# Altium footprint library k7_ext.PcbLib: 274 footprints (part 5 of 18)
Each footprint in its own frame and in the unit in brackets; x right, y up, seen from the top. Pads: shape width x height; smd on the part's side, far side on the other; paste and mask are expansions set on the pad; w line width, h text height; cw(c..) or ccw(c..) is an arc to the next point about the centre after c.
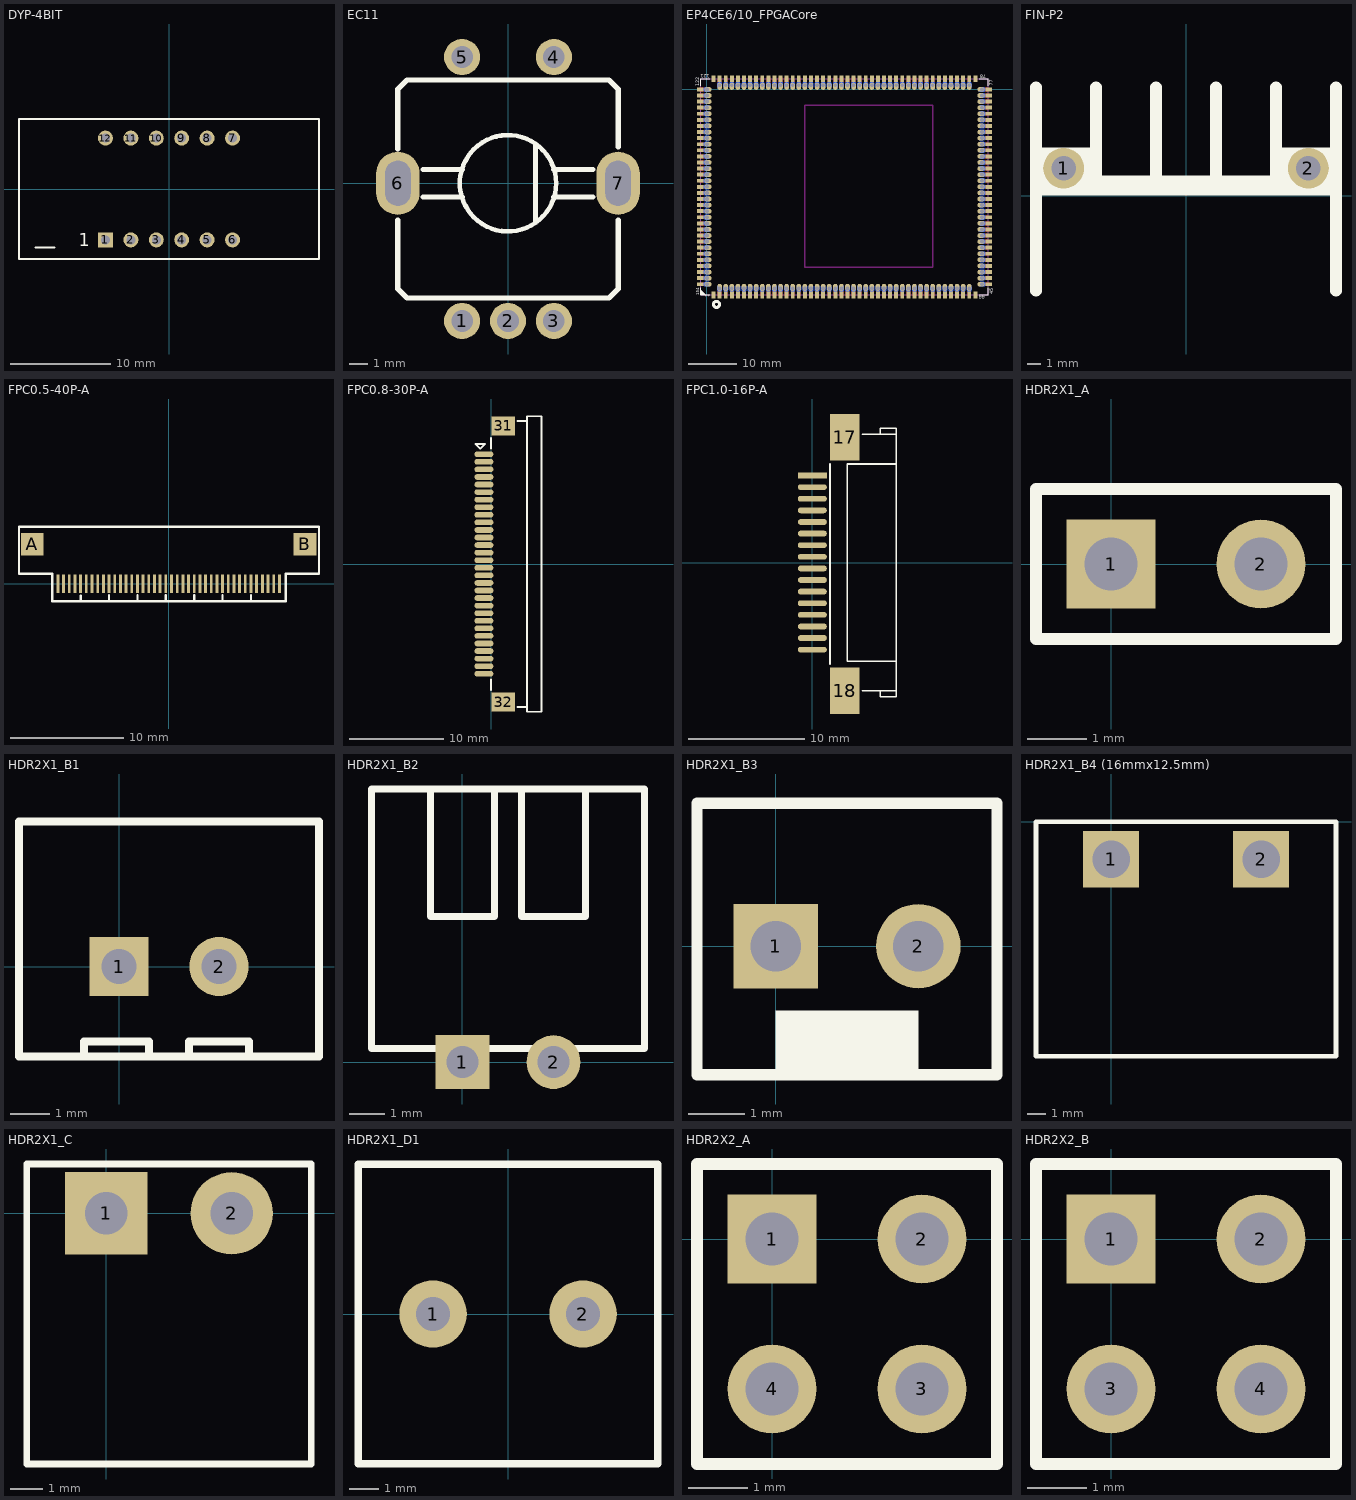
[diagram p4: the footprints below, top view; thin cyan lines are the x and y axes]

## DYP-4BIT [mm] "数码管"
height 1.2
pads (12):
  rect 1.5x1.5 hole 0.9: 1(-6.35,-5.08)
  round 1.5 hole 0.9: 2(-3.81,-5.08) 3(-1.27,-5.08) 4(1.27,-5.08) 5(3.81,-5.08) 6(6.35,-5.08) 7(6.35,5.08) 8(3.81,5.08) 9(1.27,5.08) 10(-1.27,5.08) 11(-3.81,5.08) 12(-6.35,5.08)
Top Overlay:
  lines w0.2: -13.335,-5.842 -11.43,-5.842 ; -14.986,-6.985 14.986,-6.985 14.986,6.985 -14.986,6.985 -14.986,-6.985
  text "1" at -9.017,-5.715 h1.27

## EC11 [mm]
pads (7):
  round 2 hole 1.2: 1(-2.54,-7.62) 2(0,-7.62) 3(2.54,-7.62) 4(2.54,6.985) 5(-2.54,6.985)
  oval 2.4x3.5 hole 1.4 slot 2.5 at 90 deg: 6(-6.096,0) 7(6.096,0)
Top Overlay:
  circle w0.254: c0,0 r2.667
  lines w0.3: -6.096,-2.032 -6.096,-5.842 -5.588,-6.35 5.588,-6.35 6.096,-5.842 6.096,-2.032 ; -6.096,1.905 -6.096,5.207 -5.588,5.715 5.588,5.715 6.096,5.207 6.096,2.032 ; -4.699,-0.762 -2.54,-0.762 ; -4.699,0.762 -2.54,0.762 ; 1.524,-2.159 1.524,2.159 ; 2.54,-0.762 4.699,-0.762 ; 2.54,0.762 4.699,0.762

## EP4CE6/10_FPGACore [mm] "EP4CE6/10_FPGACore"
height 2
pads (604):
  rect 0.813x1.384 smd mask+0.051: 1(1.374,-42.89) 2(2.644,-42.89) 3(3.914,-42.89) 4(5.184,-42.89) 5(6.454,-42.89) 6(7.724,-42.89) 7(8.994,-42.89) 8(10.264,-42.89) 9(11.534,-42.89) 10(12.804,-42.89) 11(14.074,-42.89) 12(15.344,-42.89) 13(16.614,-42.89) 14(17.884,-42.89) 15(19.154,-42.89) 16(20.424,-42.89) 17(21.694,-42.89) 18(22.964,-42.89) 19(24.234,-42.89) 20(25.504,-42.89) 21(26.774,-42.89) 22(28.044,-42.89) 23(29.314,-42.89) 24(30.584,-42.89) 25(31.854,-42.89) 26(33.124,-42.89) 27(34.394,-42.89) 28(35.664,-42.89) 29(36.934,-42.89) 30(38.204,-42.89) 31(39.474,-42.89) 32(40.744,-42.89) 33(42.014,-42.89) 34(43.284,-42.89) 35(44.554,-42.89) 36(45.824,-42.89) 37(47.094,-42.89) 38(48.364,-42.89) 39(49.634,-42.89) 40(50.904,-42.89) 41(52.174,-42.89) 42(53.444,-42.89) 43(54.714,-42.89) 44(55.984,-42.89) 78(55.984,2.25) 79(54.714,2.25) 80(53.444,2.25) 81(52.174,2.25) 82(50.904,2.25) 83(49.634,2.25) 84(48.364,2.25) 85(47.094,2.25) 86(45.824,2.25) 87(44.554,2.25) 88(43.284,2.25) 89(42.014,2.25) 90(40.744,2.25) 91(39.474,2.25) 92(38.204,2.25) 93(36.934,2.25) 94(35.664,2.25) 95(34.394,2.25) 96(33.124,2.25) 97(31.854,2.25) 98(30.584,2.25) 99(29.314,2.25) 100(28.044,2.25) 101(26.774,2.25) 102(25.504,2.25) 103(24.234,2.25) 104(22.964,2.25) 105(21.694,2.25) 106(20.424,2.25) 107(19.154,2.25) 108(17.884,2.25) 109(16.614,2.25) 110(15.344,2.25) 111(14.074,2.25) 112(12.804,2.25) 113(11.534,2.25) 114(10.264,2.25) 115(8.994,2.25) 116(7.724,2.25) 117(6.454,2.25) 118(5.184,2.25) 119(3.914,2.25) 120(2.644,2.25) 121(1.374,2.25)
  oval 0.94x1 hole 0.8 mask+0.051: 2(2.644,-41.499) 3(3.914,-41.499) 4(5.184,-41.499) 5(6.454,-41.499) 6(7.724,-41.499) 7(8.994,-41.499) 8(10.264,-41.499) 9(11.534,-41.499) 10(12.804,-41.499) 11(14.074,-41.499) 12(15.344,-41.499) 13(16.614,-41.499) 14(17.884,-41.499) 15(19.154,-41.499) 16(20.424,-41.499) 17(21.694,-41.499) 18(22.964,-41.499) 19(24.234,-41.499) 20(25.504,-41.499) 21(26.774,-41.499) 22(28.044,-41.499) 23(29.314,-41.499) 24(30.584,-41.499) 25(31.854,-41.499) 26(33.124,-41.499) 27(34.394,-41.499) 28(35.664,-41.499) 29(36.934,-41.499) 30(38.204,-41.499) 31(39.474,-41.499) 32(40.744,-41.499) 33(42.014,-41.499) 34(43.284,-41.499) 35(44.554,-41.499) 36(45.824,-41.499) 37(47.094,-41.499) 38(48.364,-41.499) 39(49.634,-41.499) 40(50.904,-41.499) 41(52.174,-41.499) 42(53.444,-41.499) 43(54.714,-41.499) 79(54.714,0.859) 80(53.444,0.859) 81(52.174,0.859) 82(50.904,0.859) 83(49.634,0.859) 84(48.364,0.859) 85(47.094,0.859) 86(45.824,0.859) 87(44.554,0.859) 88(43.284,0.859) 89(42.014,0.859) 90(40.744,0.859) 91(39.474,0.859) 92(38.204,0.859) 93(36.934,0.859) 94(35.664,0.859) 95(34.394,0.859) 96(33.124,0.859) 97(31.854,0.859) 98(30.584,0.859) 99(29.314,0.859) 100(28.044,0.859) 101(26.774,0.859) 102(25.504,0.859) 103(24.234,0.859) 104(22.964,0.859) 105(21.694,0.859) 106(20.424,0.859) 107(19.154,0.859) 108(17.884,0.859) 109(16.614,0.859) 110(15.344,0.859) 111(14.074,0.859) 112(12.804,0.859) 113(11.534,0.859) 114(10.264,0.859) 115(8.994,0.859) 116(7.724,0.859) 117(6.454,0.859) 118(5.184,0.859) 119(3.914,0.859) 120(2.644,0.859)
  oval 0.95x1.5 smd far side paste-14 mask+0.051: 2(2.644,-41.499) 3(3.914,-41.499) 4(5.184,-41.499) 5(6.454,-41.499) 6(7.724,-41.499) 7(8.994,-41.499) 8(10.264,-41.499) 9(11.534,-41.499) 10(12.804,-41.499) 11(14.074,-41.499) 12(15.344,-41.499) 13(16.614,-41.499) 14(17.884,-41.499) 15(19.154,-41.499) 16(20.424,-41.499) 17(21.694,-41.499) 18(22.964,-41.499) 19(24.234,-41.499) 20(25.504,-41.499) 21(26.774,-41.499) 22(28.044,-41.499) 23(29.314,-41.499) 24(30.584,-41.499) 25(31.854,-41.499) 26(33.124,-41.499) 27(34.394,-41.499) 28(35.664,-41.499) 29(36.934,-41.499) 30(38.204,-41.499) 31(39.474,-41.499) 32(40.744,-41.499) 33(42.014,-41.499) 34(43.284,-41.499) 35(44.554,-41.499) 36(45.824,-41.499) 37(47.094,-41.499) 38(48.364,-41.499) 39(49.634,-41.499) 40(50.904,-41.499) 41(52.174,-41.499) 42(53.444,-41.499) 43(54.714,-41.499) 79(54.714,0.859) 80(53.444,0.859) 81(52.174,0.859) 82(50.904,0.859) 83(49.634,0.859) 84(48.364,0.859) 85(47.094,0.859) 86(45.824,0.859) 87(44.554,0.859) 88(43.284,0.859) 89(42.014,0.859) 90(40.744,0.859) 91(39.474,0.859) 92(38.204,0.859) 93(36.934,0.859) 94(35.664,0.859) 95(34.394,0.859) 96(33.124,0.859) 97(31.854,0.859) 98(30.584,0.859) 99(29.314,0.859) 100(28.044,0.859) 101(26.774,0.859) 102(25.504,0.859) 103(24.234,0.859) 104(22.964,0.859) 105(21.694,0.859) 106(20.424,0.859) 107(19.154,0.859) 108(17.884,0.859) 109(16.614,0.859) 110(15.344,0.859) 111(14.074,0.859) 112(12.804,0.859) 113(11.534,0.859) 114(10.264,0.859) 115(8.994,0.859) 116(7.724,0.859) 117(6.454,0.859) 118(5.184,0.859) 119(3.914,0.859) 120(2.644,0.859)
  oval 0.95x1.5 smd paste-14: 2(2.644,-41.296)
  oval 0.95x1.5 smd paste-14 mask+0.102: 3(3.914,-41.296) 4(5.184,-41.296) 5(6.454,-41.296) 6(7.724,-41.296) 7(8.994,-41.296) 8(10.264,-41.296) 9(11.534,-41.296) 10(12.804,-41.296) 11(14.074,-41.296) 12(15.344,-41.296) 13(16.614,-41.296) 14(17.884,-41.296) 15(19.154,-41.296) 16(20.424,-41.296) 17(21.694,-41.296) 18(22.964,-41.296) 19(24.234,-41.296) 20(25.504,-41.296) 21(26.774,-41.296) 22(28.044,-41.296) 23(29.314,-41.296) 24(30.584,-41.296) 25(31.854,-41.296) 26(33.124,-41.296) 27(34.394,-41.296) 28(35.664,-41.296) 29(36.934,-41.296) 30(38.204,-41.296) 31(39.474,-41.296) 32(40.744,-41.296) 33(42.014,-41.296) 34(43.284,-41.296) 35(44.554,-41.296) 36(45.824,-41.296) 37(47.094,-41.296) 38(48.364,-41.296) 39(49.634,-41.296) 40(50.904,-41.296) 41(52.174,-41.296) 42(53.444,-41.296) 43(54.714,-41.296) 79(54.714,0.656) 80(53.444,0.656) 81(52.174,0.656) 82(50.904,0.656) 83(49.634,0.656) 84(48.364,0.656) 85(47.094,0.656) 86(45.824,0.656) 87(44.554,0.656) 88(43.284,0.656) 89(42.014,0.656) 90(40.744,0.656) 91(39.474,0.656) 92(38.204,0.656) 93(36.934,0.656) 94(35.664,0.656) 95(34.394,0.656) 96(33.124,0.656) 97(31.854,0.656) 98(30.584,0.656) 99(29.314,0.656) 100(28.044,0.656) 101(26.774,0.656) 102(25.504,0.656) 103(24.234,0.656) 104(22.964,0.656) 105(21.694,0.656) 106(20.424,0.656) 107(19.154,0.656) 108(17.884,0.656) 109(16.614,0.656) 110(15.344,0.656) 111(14.074,0.656) 112(12.804,0.656) 113(11.534,0.656) 114(10.264,0.656) 115(8.994,0.656) 116(7.724,0.656) 117(6.454,0.656) 118(5.184,0.656) 119(3.914,0.656) 120(2.644,0.656)
  oval 1.5x0.95 smd paste-14 mask+0.102: 45(57.155,-40.64) 46(57.155,-39.37) 47(57.155,-38.1) 48(57.155,-36.83) 49(57.155,-35.56) 50(57.155,-34.29) 51(57.155,-33.02) 52(57.155,-31.75) 53(57.155,-30.48) 54(57.155,-29.21) 55(57.155,-27.94) 56(57.155,-26.67) 57(57.155,-25.4) 58(57.155,-24.13) 59(57.155,-22.86) 60(57.155,-21.59) 61(57.155,-20.32) 62(57.155,-19.05) 63(57.155,-17.78) 64(57.155,-16.51) 65(57.155,-15.24) 66(57.155,-13.97) 67(57.155,-12.7) 68(57.155,-11.43) 69(57.155,-10.16) 70(57.155,-8.89) 71(57.155,-7.62) 72(57.155,-6.35) 73(57.155,-5.08) 74(57.155,-3.81) 75(57.155,-2.54) 76(57.155,-1.27) 77(57.155,0) 122(0.203,0) 123(0.203,-1.27) 124(0.203,-2.54) 125(0.203,-3.81) 126(0.203,-5.08) 127(0.203,-6.35) 128(0.203,-7.62) 129(0.203,-8.89) 130(0.203,-10.16) 131(0.203,-11.43) 132(0.203,-12.7) 133(0.203,-13.97) 134(0.203,-15.24) 135(0.203,-16.51) 136(0.203,-17.78) 137(0.203,-19.05) 138(0.203,-20.32) 139(0.203,-21.59) 140(0.203,-22.86) 141(0.203,-24.13) 142(0.203,-25.4) 143(0.203,-26.67) 144(0.203,-27.94) 145(0.203,-29.21) 146(0.203,-30.48) 147(0.203,-31.75) 148(0.203,-33.02) 149(0.203,-34.29) 150(0.203,-35.56) 151(0.203,-36.83) 152(0.203,-38.1) 153(0.203,-39.37) 154(0.203,-40.64)
  oval 1x0.95 hole 0.8 mask+0.051: 45(57.358,-40.64)
  oval 1.5x0.95 smd far side paste-14 mask+0.051: 45(57.358,-40.64) 46(57.358,-39.37) 47(57.358,-38.1) 48(57.358,-36.83) 49(57.358,-35.56) 50(57.358,-34.29) 51(57.358,-33.02) 52(57.358,-31.75) 53(57.358,-30.48) 54(57.358,-29.21) 55(57.358,-27.94) 56(57.358,-26.67) 57(57.358,-25.4) 58(57.358,-24.13) 59(57.358,-22.86) 60(57.358,-21.59) 61(57.358,-20.32) 62(57.358,-19.05) 63(57.358,-17.78) 64(57.358,-16.51) 65(57.358,-15.24) 66(57.358,-13.97) 67(57.358,-12.7) 68(57.358,-11.43) 69(57.358,-10.16) 70(57.358,-8.89) 71(57.358,-7.62) 72(57.358,-6.35) 73(57.358,-5.08) 74(57.358,-3.81) 75(57.358,-2.54) 76(57.358,-1.27) 77(57.358,0) 122(0,0) 123(0,-1.27) 124(0,-2.54) 125(0,-3.81) 126(0,-5.08) 127(0,-6.35) 128(0,-7.62) 129(0,-8.89) 130(0,-10.16) 131(0,-11.43) 132(0,-12.7) 133(0,-13.97) 134(0,-15.24) 135(0,-16.51) 136(0,-17.78) 137(0,-19.05) 138(0,-20.32) 139(0,-21.59) 140(0,-22.86) 141(0,-24.13) 142(0,-25.4) 143(0,-26.67) 144(0,-27.94) 145(0,-29.21) 146(0,-30.48) 147(0,-31.75) 148(0,-33.02) 149(0,-34.29) 150(0,-35.56) 151(0,-36.83) 152(0,-38.1) 153(0,-39.37) 154(0,-40.64)
  rect 1.384x0.813 smd mask+0.051: 45(58.749,-40.64) 46(58.749,-39.37) 47(58.749,-38.1) 48(58.749,-36.83) 49(58.749,-35.56) 50(58.749,-34.29) 51(58.749,-33.02) 52(58.749,-31.75) 53(58.749,-30.48) 54(58.749,-29.21) 55(58.749,-27.94) 56(58.749,-26.67) 57(58.749,-25.4) 58(58.749,-24.13) 59(58.749,-22.86) 60(58.749,-21.59) 61(58.749,-20.32) 62(58.749,-19.05) 63(58.749,-17.78) 64(58.749,-16.51) 65(58.749,-15.24) 66(58.749,-13.97) 67(58.749,-12.7) 68(58.749,-11.43) 69(58.749,-10.16) 70(58.749,-8.89) 71(58.749,-7.62) 72(58.749,-6.35) 73(58.749,-5.08) 74(58.749,-3.81) 75(58.749,-2.54) 76(58.749,-1.27) 77(58.749,0) 122(-1.391,0) 123(-1.391,-1.27) 124(-1.391,-2.54) 125(-1.391,-3.81) 126(-1.391,-5.08) 127(-1.391,-6.35) 128(-1.391,-7.62) 129(-1.391,-8.89) 130(-1.391,-10.16) 131(-1.391,-11.43) 132(-1.391,-12.7) 133(-1.391,-13.97) 134(-1.391,-15.24) 135(-1.391,-16.51) 136(-1.391,-17.78) 137(-1.391,-19.05) 138(-1.391,-20.32) 139(-1.391,-21.59) 140(-1.391,-22.86) 141(-1.391,-24.13) 142(-1.391,-25.4) 143(-1.391,-26.67) 144(-1.391,-27.94) 145(-1.391,-29.21) 146(-1.391,-30.48) 147(-1.391,-31.75) 148(-1.391,-33.02) 149(-1.391,-34.29) 150(-1.391,-35.56) 151(-1.391,-36.83) 152(-1.391,-38.1) 153(-1.391,-39.37) 154(-1.391,-40.64)
  oval 1x0.94 hole 0.8 mask+0.051: 46(57.358,-39.37) 47(57.358,-38.1) 48(57.358,-36.83) 49(57.358,-35.56) 50(57.358,-34.29) 51(57.358,-33.02) 52(57.358,-31.75) 53(57.358,-30.48) 54(57.358,-29.21) 55(57.358,-27.94) 56(57.358,-26.67) 57(57.358,-25.4) 58(57.358,-24.13) 59(57.358,-22.86) 60(57.358,-21.59) 61(57.358,-20.32) 62(57.358,-19.05) 63(57.358,-17.78) 64(57.358,-16.51) 65(57.358,-15.24) 66(57.358,-13.97) 67(57.358,-12.7) 68(57.358,-11.43) 69(57.358,-10.16) 70(57.358,-8.89) 71(57.358,-7.62) 72(57.358,-6.35) 73(57.358,-5.08) 74(57.358,-3.81) 75(57.358,-2.54) 76(57.358,-1.27) 77(57.358,0) 122(0,0) 123(0,-1.27) 124(0,-2.54) 125(0,-3.81) 126(0,-5.08) 127(0,-6.35) 128(0,-7.62) 129(0,-8.89) 130(0,-10.16) 131(0,-11.43) 132(0,-12.7) 133(0,-13.97) 134(0,-15.24) 135(0,-16.51) 136(0,-17.78) 137(0,-19.05) 138(0,-20.32) 139(0,-21.59) 140(0,-22.86) 141(0,-24.13) 142(0,-25.4) 143(0,-26.67) 144(0,-27.94) 145(0,-29.21) 146(0,-30.48) 147(0,-31.75) 148(0,-33.02) 149(0,-34.29) 150(0,-35.56) 151(0,-36.83) 152(0,-38.1) 153(0,-39.37) 154(0,-40.64)
Top Layer:
  lines w0.8: -1.391,-39.37 0,-39.37 ; -1.391,-38.1 0,-38.1 ; -1.391,-35.56 0,-35.56 ; -1.391,-34.29 0,-34.29 ; -1.391,-31.75 0,-31.75 ; -1.391,-30.48 0,-30.48 ; -1.391,-27.94 0,-27.94 ; -1.391,-26.67 0,-26.67 ; -1.391,-24.13 0,-24.13 ; -1.391,-22.86 0,-22.86 ; -1.391,-20.32 0,-20.32 ; -1.391,-19.05 0,-19.05 ; -1.391,-16.51 0,-16.51 ; -1.391,-15.24 0,-15.24 ; -1.391,-12.7 0,-12.7 ; -1.391,-11.43 0,-11.43 ; -1.391,-8.89 0,-8.89 ; -1.391,-7.62 0,-7.62 ; -1.391,-5.08 0,-5.08 ; -1.391,-3.81 0,-3.81 ; -1.391,-1.27 0,-1.27 ; -1.391,0 0,0 ; -1.143,-40.64 0,-40.64 ; -1.143,-36.83 0,-36.83 ; -1.143,-33.02 0,-33.02 ; -1.143,-29.21 0,-29.21 ; -1.143,-25.4 0,-25.4 ; -1.143,-21.59 0,-21.59 ; -1.143,-17.78 0,-17.78 ; -1.143,-13.97 0,-13.97 ; -1.143,-10.16 0,-10.16 ; -1.143,-6.35 0,-6.35 ; -1.143,-2.54 0,-2.54 ; 2.644,-42.89 2.644,-41.747 ; 2.644,0.859 2.644,2.002 ; 3.914,-42.89 3.914,-41.499 ; 3.914,0.859 3.914,2.25 ; 5.184,-42.89 5.184,-41.499 ; 5.184,0.859 5.184,2.25 ; 6.454,-42.89 6.454,-41.747 ; 6.454,0.859 6.454,2.002 ; 7.724,-42.89 7.724,-41.499 ; 7.724,0.859 7.724,2.25 ; 8.994,-42.89 8.994,-41.499 ; 8.994,0.859 8.994,2.25 ; 10.264,-42.89 10.264,-41.747 ; 10.264,0.859 10.264,2.002 ; 11.534,-42.89 11.534,-41.499 ; 11.534,0.859 11.534,2.25 ; 12.804,-42.89 12.804,-41.499 ; 12.804,0.859 12.804,2.25 ; 14.074,-42.89 14.074,-41.747 ; 14.074,0.859 14.074,2.002 ; 15.344,-42.89 15.344,-41.499 ; 15.344,0.859 15.344,2.25 ; 16.614,-42.89 16.614,-41.499 ; 16.614,0.859 16.614,2.25 ; 17.884,-42.89 17.884,-41.747 ; 17.884,0.859 17.884,2.002 ; 19.154,-42.89 19.154,-41.499 ; 19.154,0.859 19.154,2.25 ; 20.424,-42.89 20.424,-41.499 ; 20.424,0.859 20.424,2.25 ; 21.694,-42.89 21.694,-41.747 ; 21.694,0.859 21.694,2.002 ; 22.964,-42.89 22.964,-41.499 ; 22.964,0.859 22.964,2.25 ; 24.234,-42.89 24.234,-41.499 ; 24.234,0.859 24.234,2.25 ; 25.504,-42.89 25.504,-41.747 ; 25.504,0.859 25.504,2.002 ; 26.774,-42.89 26.774,-41.499 ; 26.774,0.859 26.774,2.25 ; 28.044,-42.89 28.044,-41.499 ; 28.044,0.859 28.044,2.25 ; 29.314,-42.89 29.314,-41.747 ; 29.314,0.859 29.314,2.002 ; 30.584,-42.89 30.584,-41.499 ; 30.584,0.859 30.584,2.25 ; 31.854,-42.89 31.854,-41.499 ; 31.854,0.859 31.854,2.25 ; 33.124,-42.89 33.124,-41.747 ; 33.124,0.859 33.124,2.002 ; 34.394,-42.89 34.394,-41.499 ; 34.394,0.859 34.394,2.25 ; 35.664,-42.89 35.664,-41.499 ; 35.664,0.859 35.664,2.25 ; 36.934,-42.89 36.934,-41.747 ; 36.934,0.859 36.934,2.002 ; 38.204,-42.89 38.204,-41.499 ; 38.204,0.859 38.204,2.25 ; 39.474,-42.89 39.474,-41.499 ; 39.474,0.859 39.474,2.25 ; 40.744,-42.89 40.744,-41.747 ; 40.744,0.859 40.744,2.002 ; 42.014,-42.89 42.014,-41.499 ; 42.014,0.859 42.014,2.25 ; 43.284,-42.89 43.284,-41.499 ; 43.284,0.859 43.284,2.25 ; 44.554,-42.89 44.554,-41.747 ; 44.554,0.859 44.554,2.002 ; 45.824,-42.89 45.824,-41.499 ; 45.824,0.859 45.824,2.25 ; 47.094,-42.89 47.094,-41.499 ; 47.094,0.859 47.094,2.25 ; 48.364,-42.89 48.364,-41.747 ; 48.364,0.859 48.364,2.002 ; 49.634,-42.89 49.634,-41.499 ; 49.634,0.859 49.634,2.25 ; 50.904,-42.89 50.904,-41.499 ; 50.904,0.859 50.904,2.25 ; 52.174,-42.89 52.174,-41.747 ; 52.174,0.859 52.174,2.002 ; 53.444,-42.89 53.444,-41.499 ; 53.444,0.859 53.444,2.25 ; 54.714,-42.89 54.714,-41.499 ; 54.714,0.859 54.714,2.25 ; 57.155,-33.02 58.546,-33.02 ; 57.155,-31.75 58.546,-31.75 ; 57.155,-30.48 58.298,-30.48 ; 57.358,-40.64 58.749,-40.64 ; 57.358,-39.37 58.749,-39.37 ; 57.358,-38.1 58.749,-38.1 ; 57.358,-36.83 58.501,-36.83 ; 57.358,-35.56 58.749,-35.56 ; 57.358,-34.29 58.749,-34.29 ; 57.358,-33.02 58.501,-33.02 ; 57.358,-29.21 58.749,-29.21 ; 57.358,-27.94 58.749,-27.94 ; 57.358,-26.67 58.501,-26.67 ; 57.358,-25.4 58.749,-25.4 ; 57.358,-24.13 58.749,-24.13 ; 57.358,-22.86 58.501,-22.86 ; 57.358,-21.59 58.749,-21.59 ; 57.358,-20.32 58.749,-20.32 ; 57.358,-19.05 58.501,-19.05 ; 57.358,-17.78 58.749,-17.78 ; 57.358,-16.51 58.749,-16.51 ; 57.358,-15.24 58.501,-15.24 ; 57.358,-13.97 58.749,-13.97 ; 57.358,-12.7 58.749,-12.7 ; 57.358,-11.43 58.501,-11.43 ; 57.358,-10.16 58.749,-10.16 ; 57.358,-8.89 58.749,-8.89 ; 57.358,-7.62 58.501,-7.62 ; 57.358,-6.35 58.749,-6.35 ; 57.358,-5.08 58.749,-5.08 ; 57.358,-3.81 58.501,-3.81 ; 57.358,-2.54 58.749,-2.54 ; 57.358,-1.27 58.749,-1.27 ; 57.358,0 58.501,0
Top Overlay:
  circle w0.635: c1.985,-44.852 r0.635
  region: -1.321,-42.82 -1.321,-41.808 -0.309,-42.82
  lines w0.127: -1.321,-41.427 -1.321,-42.82 0.587,-42.82 ; -1.321,0.787 -1.321,2.18 0.587,2.18 ; 56.772,-42.82 58.679,-42.82 58.679,-41.427 ; 56.772,2.18 58.679,2.18 58.679,0.787
  text "154" at -1.572,-42.901 h0.64
  text "1" at 0.358,-43.409 h0.76
  text "122" at -1.648,0.686 h0.76
  text "121" at 0.561,3.175 h0.76
  text "78" at 58.296,3.099 h0.76
  text "77" at 59.667,0.762 h0.76
  text "45" at 59.743,-42.748 h0.76
  text "44" at 58.016,-43.028 h0.76
Keep-Out Layer:
  lines w0.3: 20.424,-37.084 47.094,-37.084 47.094,-3.251 20.424,-3.251 20.424,-37.084
Mechanical 15:
  lines w0.127: -1.321,-42.82 58.679,-42.82 58.679,2.18 -1.321,2.18 -1.321,-42.82
3D body: height 2, standoff 0, extent 0.076,-41.783 57.379,0.889

## FIN-P2 [mm] "散热片"
height 1.9
pads (2):
  round 3 hole 1.8: 1(-9.017,2.032) 2(9.017,2.032)
Top Overlay:
  rectangle: 6.629,1.27 11.049,3.556
  rectangle: -11.049,0.889 -6.629,3.556
  lines w0.85: -11.049,-7 -11.049,8 ; -6.629,0.762 -6.629,8.001 ; -2.21,0.762 -2.21,8.001 ; 2.21,0.762 2.21,8.001 ; 6.629,0.762 6.629,8.001 ; 11.049,-7 11.049,8
  lines w1.5: -10.668,0.762 10.668,0.762

## FPC0.5-40P-A [mm]
height 1
pads (42):
  rect 0.25x1.6 smd: 1(-9.78,0.011) 2(-9.28,0.011) 3(-8.78,0.011) 4(-8.28,0.011) 5(-7.78,0.011) 6(-7.28,0.011) 7(-6.78,0.011) 8(-6.28,0.011) 9(-5.78,0.011) 10(-5.28,0.011) 11(-4.78,0.011) 12(-4.28,0.011) 13(-3.78,0.011) 14(-3.28,0.011) 15(-2.78,0.011) 16(-2.28,0.011) 17(-1.78,0.011) 18(-1.28,0.011) 19(-0.78,0.011) 20(-0.28,0.011) 21(0.22,0.011) 22(0.72,0.011) 23(1.22,0.011) 24(1.72,0.011) 25(2.22,0.011) 26(2.72,0.011) 27(3.22,0.011) 28(3.72,0.011) 29(4.22,0.011) 30(4.72,0.011) 31(5.22,0.011) 32(5.72,0.011) 33(6.22,0.011) 34(6.72,0.011) 35(7.22,0.011) 36(7.72,0.011) 37(8.22,0.011) 38(8.72,0.011) 39(9.22,0.011) 40(9.72,0.011)
  rect 2x2 smd: A(-12.029,3.5) B(11.971,3.5)
Top Overlay:
  lines w0.2: -10.287,-1.524 -10.287,0.889 -13.208,0.889 -13.208,5.036 13.208,5.036 13.208,1.27 13.208,0.889 10.287,0.889 10.287,-1.514 -10.287,-1.514 ; -7.78,-1.514 -7.78,-1.014 ; -5.28,-1.514 -5.28,-0.989 ; -2.78,-1.489 -2.78,-0.989 ; -0.28,-1.464 -0.28,-0.964 ; 2.22,-1.464 2.22,-0.964 ; 4.72,-1.464 4.72,-0.964 ; 7.22,-1.464 7.22,-0.964

## FPC0.8-30P-A [mm] "FPC"
height 1.2
pads (32):
  oval 2x0.6 smd: 1(-0.762,11.6) 2(-0.762,10.8) 3(-0.762,10) 4(-0.762,9.2) 5(-0.762,8.4) 6(-0.762,7.6) 7(-0.762,6.8) 8(-0.762,6) 9(-0.762,5.2) 10(-0.762,4.4) 11(-0.762,3.6) 12(-0.762,2.8) 13(-0.762,2) 14(-0.762,1.2) 15(-0.762,0.4) 16(-0.762,-0.4) 17(-0.762,-1.2) 18(-0.762,-2) 19(-0.762,-2.8) 20(-0.762,-3.6) 21(-0.762,-4.4) 22(-0.762,-5.2) 23(-0.762,-6) 24(-0.762,-6.8) 25(-0.762,-7.6) 26(-0.762,-8.4) 27(-0.762,-9.2) 28(-0.762,-10) 29(-0.762,-10.8) 30(-0.762,-11.6)
  rect 2.5x2 smd: 31(1.27,14.605) 32(1.27,-14.605)
Top Overlay:
  lines w0.2: 0,-13.335 0,-12.192 ; 0,12.192 0,13.335 ; 2.794,-15.113 3.81,-15.113 ; 2.794,15.113 3.81,15.113 ; 3.81,-15.113 3.81,-15.621 5.334,-15.621 5.334,15.621 3.81,15.621 3.81,15.113 ; 3.81,-15.113 3.81,15.113 ; -1.651,12.7 -1.524,12.7 -0.635,12.7 -1.143,12.192 -1.651,12.7

## FPC1.0-16P-A [mm] "FPC"
height 1.2
pads (18):
  rect 2.5x0.5 smd: 1(0,7.493)
  oval 2.5x0.5 smd: 2(0,6.493) 3(0,5.493) 4(0,4.493) 5(0,3.493) 6(0,2.493) 7(0,1.493) 8(0,0.493) 9(0,-0.507) 10(0,-1.507) 11(0,-2.507) 12(0,-3.507) 13(0,-4.507) 14(0,-5.507) 15(0,-6.507) 16(0,-7.507)
  rect 2.5x4 smd: 17(2.794,10.795) 18(2.794,-11.049)
Top Overlay:
  lines w0.15: 1.524,-8.763 1.524,8.509 ; 4.318,-11.049 7.224,-11.049 ; 4.318,11.049 7.224,11.049 ; 5.842,11.049 5.842,11.557 7.224,11.557 7.224,11.049 ; 6.096,-11.049 5.842,-11.049 5.842,-11.557 7.224,-11.557 7.224,-11.049 ; 7.224,-8.507 3,-8.507 3,8.493 7.224,8.493 ; 7.224,-11.049 7.224,11.049

## HDR2X1_A [mm] "Connector; Header; 2 Position"
height 7.01
pads (2):
  rect 1.5x1.5 hole 0.9: 1(0,0)
  round 1.5 hole 0.9: 2(2.54,0)
Top Overlay:
  lines w0.2: -1.27,-1.27 3.81,-1.27 3.81,1.27 -1.27,1.27 -1.27,-1.27

## HDR2X1_B1 [mm] "Connector; Header; 4 Position"
height 1.6
pads (2):
  rect 1.5x1.5 hole 0.9: 1(0,0)
  round 1.5 hole 0.9: 2(2.54,0)
Top Overlay:
  lines w0.2: -0.889,-2.286 -0.889,-1.905 0.762,-1.905 0.762,-2.286 ; 1.778,-2.286 1.778,-1.905 3.302,-1.905 3.302,-2.286 ; -2.54,-2.286 -2.54,3.683 5.08,3.683 5.08,-2.286 -2.54,-2.286
3D body: height 1.5, standoff 0, extent -2.413,-2.159 5.08,3.556

## HDR2X1_B2 [mm] "Connector; Header; 4 Position"
height 1.6
pads (2):
  rect 1.5x1.5 hole 0.9: 1(0,0)
  round 1.5 hole 0.9: 2(2.54,0)
Top Overlay:
  lines w0.2: -0.889,7.62 -0.889,4.064 0.889,4.064 0.889,7.62 ; 1.651,7.62 1.651,4.064 3.429,4.064 3.429,7.62 ; -2.54,0.381 -2.54,7.62 5.08,7.62 5.08,0.381 -2.54,0.381
3D body: height 1.5, standoff 0, extent -2.54,0.381 5.08,7.62

## HDR2X1_B3 [mm] "Connector; Header; 4 Position"
height 1.6
pads (2):
  rect 1.5x1.5 hole 0.9: 1(0,0)
  round 1.5 hole 0.9: 2(2.54,0)
Top Overlay:
  rectangle: 0,-2.286 2.54,-1.143
  lines w0.2: -1.397,-2.286 3.937,-2.286 3.937,2.54 -1.397,2.54 -1.397,-2.286
3D body: height 1.5, standoff 0, extent -1.397,-2.286 3.937,2.54

## HDR2X1_B4 (16mmx12.5mm) [mm] "接线端子 16x12.5x12 高压接线"
height 12
pads (2):
  rect 3x3 hole 2: 1(0,-2) 2(8,-2)
Top Overlay:
  lines w0.254: -4,-12.5 -4,0 12,0 12,-12.5 -4,-12.5

## HDR2X1_C [mm] "3.81接插件"
height 7
pads (2):
  rect 2.5x2.5 hole 1.3: 1(0,0)
  round 2.5 hole 1.3: 2(3.81,0)
Top Overlay:
  lines w0.2: -2.413,-7.62 -2.413,1.5 6.223,1.5 6.223,-7.62 -2.413,-7.62
3D body: height 5, standoff 0, extent -2.413,-7.62 6.223,1.397

## HDR2X1_D1 [mil] "5.08mm端子"
height 500
pads (2):
  round 90 hole 45: 1(-100,0) 2(100,0)
Top Overlay:
  lines w10: -200,-200 200,-200 200,200 -200,200 -200,-200

## HDR2X2_A [mm] "Connector; Header; 2 Position"
height 7.01
pads (4):
  rect 1.5x1.5 hole 0.9: 1(0,0)
  round 1.5 hole 0.9: 2(2.54,0) 3(2.54,-2.54) 4(0,-2.54)
Top Overlay:
  lines w0.2: -1.27,-3.81 3.81,-3.81 3.81,1.27 -1.27,1.27 -1.27,-3.81

## HDR2X2_B [mm] "Connector; Header; 2 Position"
height 7.01
pads (4):
  rect 1.5x1.5 hole 0.9: 1(0,0)
  round 1.5 hole 0.9: 2(2.54,0) 3(0,-2.54) 4(2.54,-2.54)
Top Overlay:
  lines w0.2: -1.27,-3.81 -1.27,1.27 3.81,1.27 3.81,-3.81 -1.27,-3.81